# Altium integrated library 4.7uH_Ind_IHLP5050CEER4R7M01.IntLib: 1 symbol
Pins are listed as number, name and electrical type; pins without a type are passive.

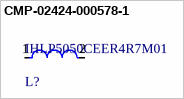
[diagram p0: symbol CMP-02424-000578-1]

## CMP-02424-000578-1
designator L?, comment IHLP5050CEER4R7M01
Commercial Inductors, High Saturation Series 4.7uH 10A 15mΩ 20%; Saturation Current: 24A; Core Material: Metal; Shielding: Shielded; DC Resistance (DCR): 15mR; Self Resonant Frequency: 5MHz; Test Frequency: 100kHz; Max Operating Temperature: 125°C; Package Quantity: 500; Termination: SMD/SMT; Inductance Tolerance: 20%; Radiation Hardening: No; Height - Seated (Max): 0.138inch; Lead Free: Lead Free; Width: 0.508inch; Packaging: Tape and Reel; Inductance: 4.7uH; Case/Package: 5050; Length: 13.2mm; Height: 3.5mm; Mount: Surface Mount; Min Operating Temperature: -55°C; Current Rating: 10A; RMS Current (Irms): 10A; Military Standard: Not; Max DC Current: 10A; Tolerance: 20%; Depth: 12.9mm; Number of Pins: 5050
footprint FP-IHLP-5050CE-FP_3_175x3-MFG
pins: 1, 2